# Altium integrated library RES.IntLib: 27 symbols
Pins are listed as number, name and electrical type; pins without a type are passive.

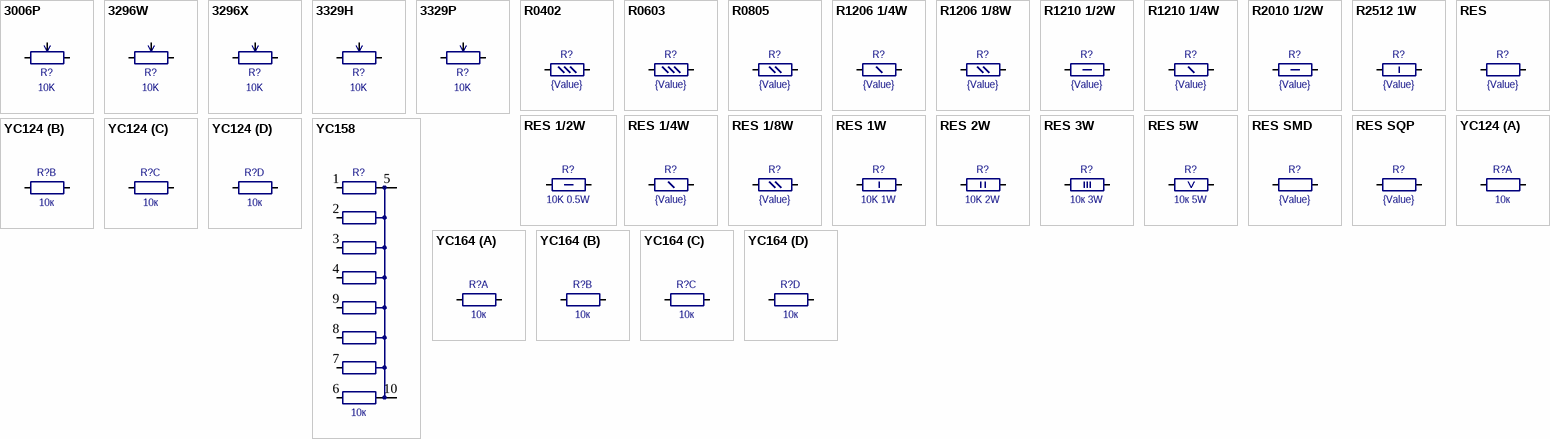
[diagram p0: symbols 3006P to YC164]

## 3006P
designator R?, comment 10K
3006P; Value: 10K
footprint 3006P
pins: 1, 2 3, 3 2

## 3296W
designator R?, comment 10K
3296W; Value: 10K
footprint 3296W
pins: 1, 2 3, 3 2

## 3296X
designator R?, comment 10K
3296X; Value: 10K
footprint 3296X
pins: 1, 2 3, 3 2

## 3329H
designator R?, comment 10K
3329H; Value: 10K
footprint 3329H
pins: 1, 2 3, 3 2

## 3329P
designator R?, comment 10K
3329P; Value: 10K
footprint 3329P
pins: 1, 2 3, 3 2

## R0402
designator R?, comment {Value}
R0402; Value: {Value}
footprint R0402
pins: 1, 2

## R0603
designator R?, comment {Value}
R0603; Value: {Value}
footprint R0603
pins: 1, 2

## R0805
designator R?, comment {Value}
R0805; Value: {Value}
footprint R0805
pins: 1, 2

## R1206 1/4W
designator R?, comment {Value}
R1206; Value: {Value}
footprint R1206
pins: 1, 2

## R1206 1/8W
designator R?, comment {Value}
R1206; Value: {Value}
footprint R1206
pins: 1, 2

## R1210 1/2W
designator R?, comment {Value}
R1210; Value: {Value}
footprint R1210
pins: 1, 2

## R1210 1/4W
designator R?, comment {Value}
R1210; Value: {Value}
footprint R1210
pins: 1, 2

## R2010 1/2W
designator R?, comment {Value}
R2010; Value: {Value}
footprint R2010
pins: 1, 2

## R2512 1W
designator R?, comment {Value}
R2512; Value: {Value}
footprint R2512
pins: 1, 2

## RES
designator R?, comment {Value}
RES; Value: {Value}
footprint RES 1/8W
footprint RES 1/4W
footprint RES 1/2W
footprint RES 1W
footprint RES 1/8W V
pins: 1, 2

## RES 1/2W
designator R?, comment 10K 0.5W
RES 1/2W; Value: 10K 0.5W
footprint RES 1/2W
pins: 1, 2

## RES 1/4W
designator R?, comment {Value}
RES 1/4W; Value: {Value}
footprint RES 1/4W
pins: 1, 2

## RES 1/8W
designator R?, comment {Value}
RES 1/8W; Value: {Value}
footprint RES 1/8W
footprint RES 1/8W V
pins: 1, 2

## RES 1W
designator R?, comment 10K 1W
RES 1W; Value: 10K 1W
footprint RES 1W
pins: 1, 2

## RES 2W
designator R?, comment 10K 2W
RES 2W; Value: 10K 2W
footprint RES 2W
pins: 1, 2

## RES 3W
designator R?, comment 10к 3W
RES 3W; Value: 10к 3W
footprint SQP 3W
pins: 1, 2

## RES 5W
designator R?, comment 10к 5W
RES 5W; Value: 10к 5W
footprint SQP 5W
pins: 1, 2

## RES SMD
designator R?, comment {Value}
RES SMD; Value: {Value}
footprint R0402
footprint R0603
footprint R0805
footprint R1206
footprint R1210
pins: 1, 2

## RES SQP
designator R?, comment {Value}
RES SQP; Value: {Value}
footprint SQP 10W
footprint SQP 15W
footprint SQP 20-25W
footprint SQP 3W
footprint SQP 5W
footprint SQP 7W
pins: 1, 2

## YC124
designator R?, comment 10к
YC124; Value: 10к; PartNumber: *
footprint YC12
part A pins: 1, 8 2
part B pins: 2 1, 7 2
part C pins: 3 1, 6 2
part D pins: 4 1, 5 2

## YC158
designator R?, comment 10к
YC158; Value: 10к
footprint YC15
pins: 1, 2, 3, 4, 5, 6, 7, 8, 9, 10

## YC164
designator R?, comment 10к
YC164; Value: 10к; PartNumber: *
footprint YC16
footprint YC12
part A pins: 1, 8 2
part B pins: 2 1, 7 2
part C pins: 3 1, 6 2
part D pins: 4 1, 5 2